# EAGLE library part PIC16F1824 (library 0SBLib)
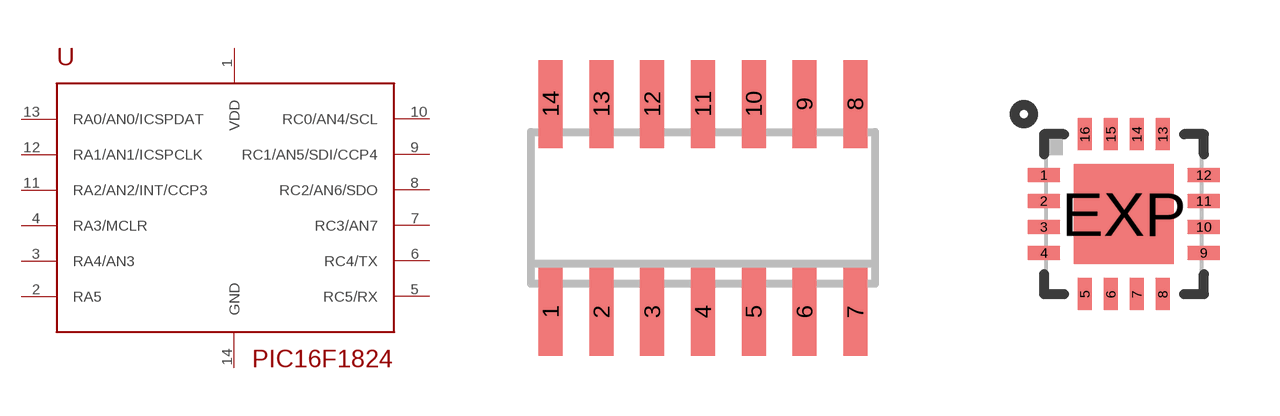
[diagram p2: symbol with the pads of SO-14; footprints SO-14, QFN16-4X4]

Designator prefix -

## PIC16F1824SO  [SO-14]
1  VDD
2  RA5
3  RA4/AN3
4  RA3/MCLR
5  RC5/RX
6  RC4/TX
7  RC3/AN7
8  RC2/AN6/SDO
9  RC1/AN5/SDI/CCP4
10  RC0/AN4/SCL
11  RA2/AN2/INT/CCP3
12  RA1/AN1/ICSPCLK
13  RA0/AN0/ICSPDAT
14  GND

## PIC16F1824QFN  [QFN16-4X4]
1  RA5
2  RA4/AN3
3  RA3/MCLR
4  RC5/RX
5  RC4/TX
6  RC3/AN7
7  RC2/AN6/SDO
8  RC1/AN5/SDI/CCP4
9  RC0/AN4/SCL
10  RA2/AN2/INT/CCP3
11  RA1/AN1/ICSPCLK
12  RA0/AN0/ICSPDAT
13  GND
16  VDD

## Footprint SO-14 (pad centres in mm)
Small Outline Narrow Plastic Gull Wing 150-mil body, package type SL
smd 0.6 x 2.2: 1 -3.81,-2.6; 2 -2.54,-2.6; 3 -1.27,-2.6; 4 0,-2.6; 5 1.27,-2.6; 6 2.54,-2.6; 7 3.81,-2.6; 8 3.81,2.6; 9 2.54,2.6; 10 1.27,2.6; 11 0,2.6; 12 -1.27,2.6; 13 -2.54,2.6; 14 -3.81,2.6

## Footprint QFN16-4X4 (pad centres in mm)
16-Lead Plastic Quad Flat, No Lead Package (ML) - 4x4x0.9mm Body [QFN] Source: http://ww1.microchip.com/downloads/en/DeviceDoc/41203E.pdf
smd 0.8 x 0.35: 1 -2,0.975; 2 -2,0.325; 3 -2,-0.325; 4 -2,-0.975; 9 2,-0.975; 10 2,-0.325; 11 2,0.325; 12 2,0.975
smd 0.35 x 0.8: 5 -0.975,-2; 6 -0.325,-2; 7 0.325,-2; 8 0.975,-2; 13 0.975,2; 14 0.325,2; 15 -0.325,2; 16 -0.975,2
smd 2.5 x 2.5: EXP 0,0